# EAGLE library part DRV8836DSSR (library DRV8834)
DUAL LOW VOLTAGE H-BRIDGE IC,SON-12
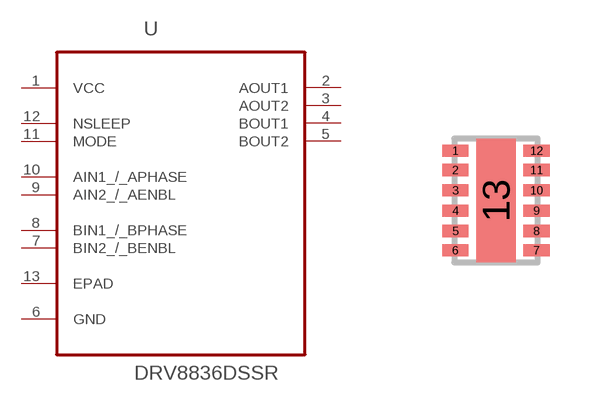
[diagram p0: symbol with the pads of SON50P200X300X80-13N; footprint SON50P200X300X80-13N]

Designator prefix U

## DRV8836DSSR (MPN: DRV8836DSSR; OC_FARNELL: 2115236; OC_NEWARK: 94T6066; PACKAGE: SON-12; SUPPLIER: TEXAS INSTRUMENTS)  [SON50P200X300X80-13N]
1  VCC  pwr
2  AOUT1  out
3  AOUT2  out
4  BOUT1  out
5  BOUT2  out
6  GND  pas
7  BIN2_/_BENBL  in
8  BIN1_/_BPHASE  in
9  AIN2_/_AENBL  in
10  AIN1_/_APHASE  in
11  MODE  in
12  NSLEEP  in
13  EPAD  pas

## Footprint SON50P200X300X80-13N (pad centres in mm)
smd 0.66 x 0.305: 1 -1.016,1.245; 2 -1.016,0.762; 3 -1.016,0.254; 4 -1.016,-0.254; 5 -1.016,-0.762; 6 -1.016,-1.245; 7 1.016,-1.245; 8 1.016,-0.762; 9 1.016,-0.254; 10 1.016,0.254; 11 1.016,0.762; 12 1.016,1.245
smd 0.991 x 3.099: 13 0,0